# EAGLE library part CY2309ZXC-1HT (library Cypress_By_element14_Batch_1)
Zero Delay Buffer
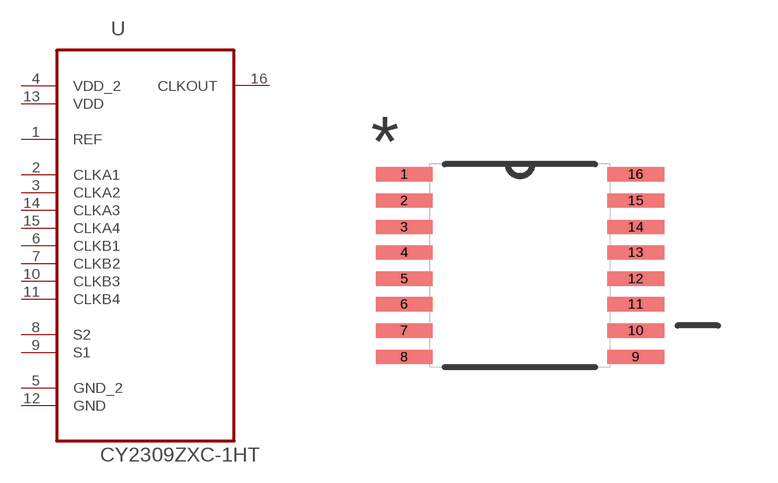
[diagram p9: symbol with the pads of SOP65P640X112-16N; footprint SOP65P640X112-16N]

Designator prefix U

## CY2309ZXC-1HT (DESCRIPTION: Zero Delay Buffer; MPN: CY2309ZXC-1HT; OC_FARNELL: 1876330; OC_NEWARK: 27T9401; PACKAGE: TSSOP-16; SUPPLIER: CYPRESS SEMICONDUCTOR)  [SOP65P640X112-16N]
1  REF  in
2  CLKA1  in
3  CLKA2  in
4  VDD_2  pwr
5  GND_2  pas
6  CLKB1  in
7  CLKB2  in
8  S2  in
9  S1  in
10  CLKB3  in
11  CLKB4  in
12  GND  pas
13  VDD  pwr
14  CLKA3  in
15  CLKA4  in
16  CLKOUT  out

## Footprint SOP65P640X112-16N (pad centres in mm)
smd 1.422 x 0.356: 1 -2.896,2.286; 2 -2.896,1.626; 3 -2.896,0.965; 4 -2.896,0.33; 5 -2.896,-0.33; 6 -2.896,-0.965; 7 -2.896,-1.626; 8 -2.896,-2.286; 9 2.896,-2.286; 10 2.896,-1.626; 11 2.896,-0.965; 12 2.896,-0.33; 13 2.896,0.33; 14 2.896,0.965; 15 2.896,1.626; 16 2.896,2.286